# EAGLE library part TPD2E1B06 (library clackboard_lib)
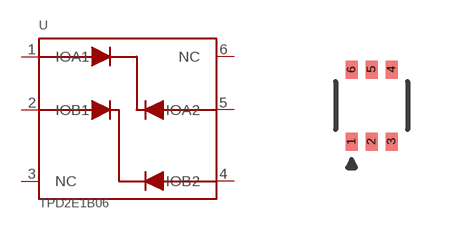
[diagram p19: symbol with the pads of TPD2E1B06; footprint TPD2E1B06]

Designator prefix U

## TPD2E1B06  [TPD2E1B06]
1  IOA1
2  IOB1
3  NC
4  IOB2
5  IOA2
6  NC

## Footprint TPD2E1B06 (pad centres in mm)
smd 0.3 x 0.45: 1 -0.5,-0.9; 2 0,-0.9; 3 0.5,-0.9; 4 0.5,0.9; 5 0,0.9; 6 -0.5,0.9